# EAGLE library part IRF7103 (library irf-2)
HEXFET® Power MOSFET Adavanced Process Technology Ultra Low On-Resistance Dual N-Channel MOSFET Surface Mount Available in Tape & Reel Dynamic dv/dt Rating Fast Switching Please connect both Drain-Pins of each FET for thermal Reasons! (Pin 5 with Pin 6, 7 with 8)
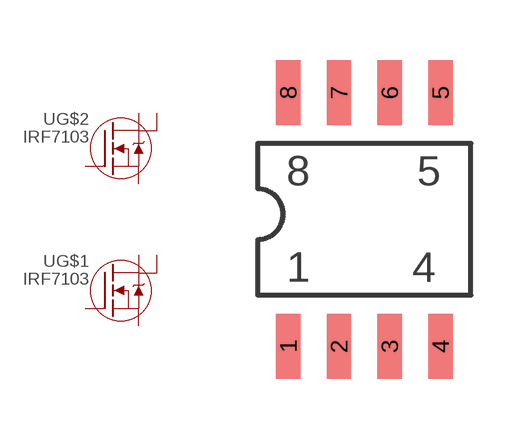
[diagram p6: symbol with the pads of SO8-2; footprint SO8-2]

Designator prefix -; gates G$1=N-CHANNEL-MOSFET G$2=N-CHANNEL-MOSFET

## IRF7103  [SO8-2]
1  G$1:S
2  G$1:G
3  G$2:S
4  G$2:G
5  G$2:D
6  G$2:D
7  G$1:D
8  G$1:D

## Footprint SO8-2 (pad centres in mm)
smd 0.61 x 1.626: 1 -2.54,-2.54; 2 -1.27,-2.54; 3 0,-2.54; 4 1.27,-2.54; 5 1.27,3.81; 6 0,3.81; 7 -1.27,3.81; 8 -2.54,3.81